# EAGLE library part MAX5312 (library m_misc)
Maxim MAX5312 DAC The MAX5312 12-bit, serial interface, digital-to-analog converter (DAC) provides bipolar +/-5V to +/-10V outputs from +/-12V to +/-15V power supply voltages, or a unipolar 5V to 10V output from a single 12V to 15V power supply voltage.
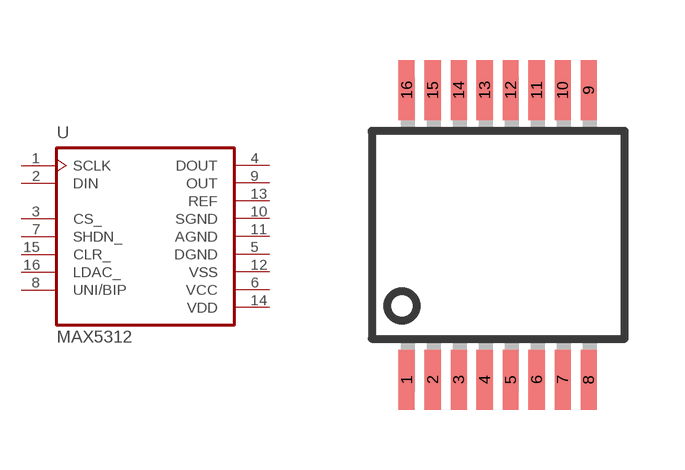
[diagram p8: symbol with the pads of SSOP16; footprint SSOP16]

Designator prefix -

## MAX5312  [SSOP16]
1  SCLK
2  DIN
3  CS_
4  DOUT
5  DGND  sup
6  VCC  pwr
7  SHDN_
8  UNI/BIP
9  OUT
10  SGND  sup
11  AGND  sup
12  VSS  sup
13  REF
14  VDD  pwr
15  CLR_
16  LDAC_

## Footprint SSOP16 (pad centres in mm)
Shrink Small Outline Package package type SS
smd 0.4 x 1.5: 1 -1.655,-3.625; 2 -1.005,-3.625; 3 -0.355,-3.625; 4 0.295,-3.625; 5 0.945,-3.625; 6 1.595,-3.625; 7 2.245,-3.625; 8 2.895,-3.625; 9 2.895,3.625; 10 2.245,3.625; 11 1.595,3.625; 12 0.945,3.625; 13 0.295,3.625; 14 -0.355,3.625; 15 -1.005,3.625; 16 -1.655,3.625